# Altium footprint library TC264.PcbLib: 47 footprints (part 1 of 3)
Each footprint in its own frame and in the unit in brackets; x right, y up, seen from the top. Pads: shape width x height; smd on the part's side, far side on the other; paste and mask are expansions set on the pad; w line width, h text height; cw(c..) or ccw(c..) is an arc to the next point about the centre after c.
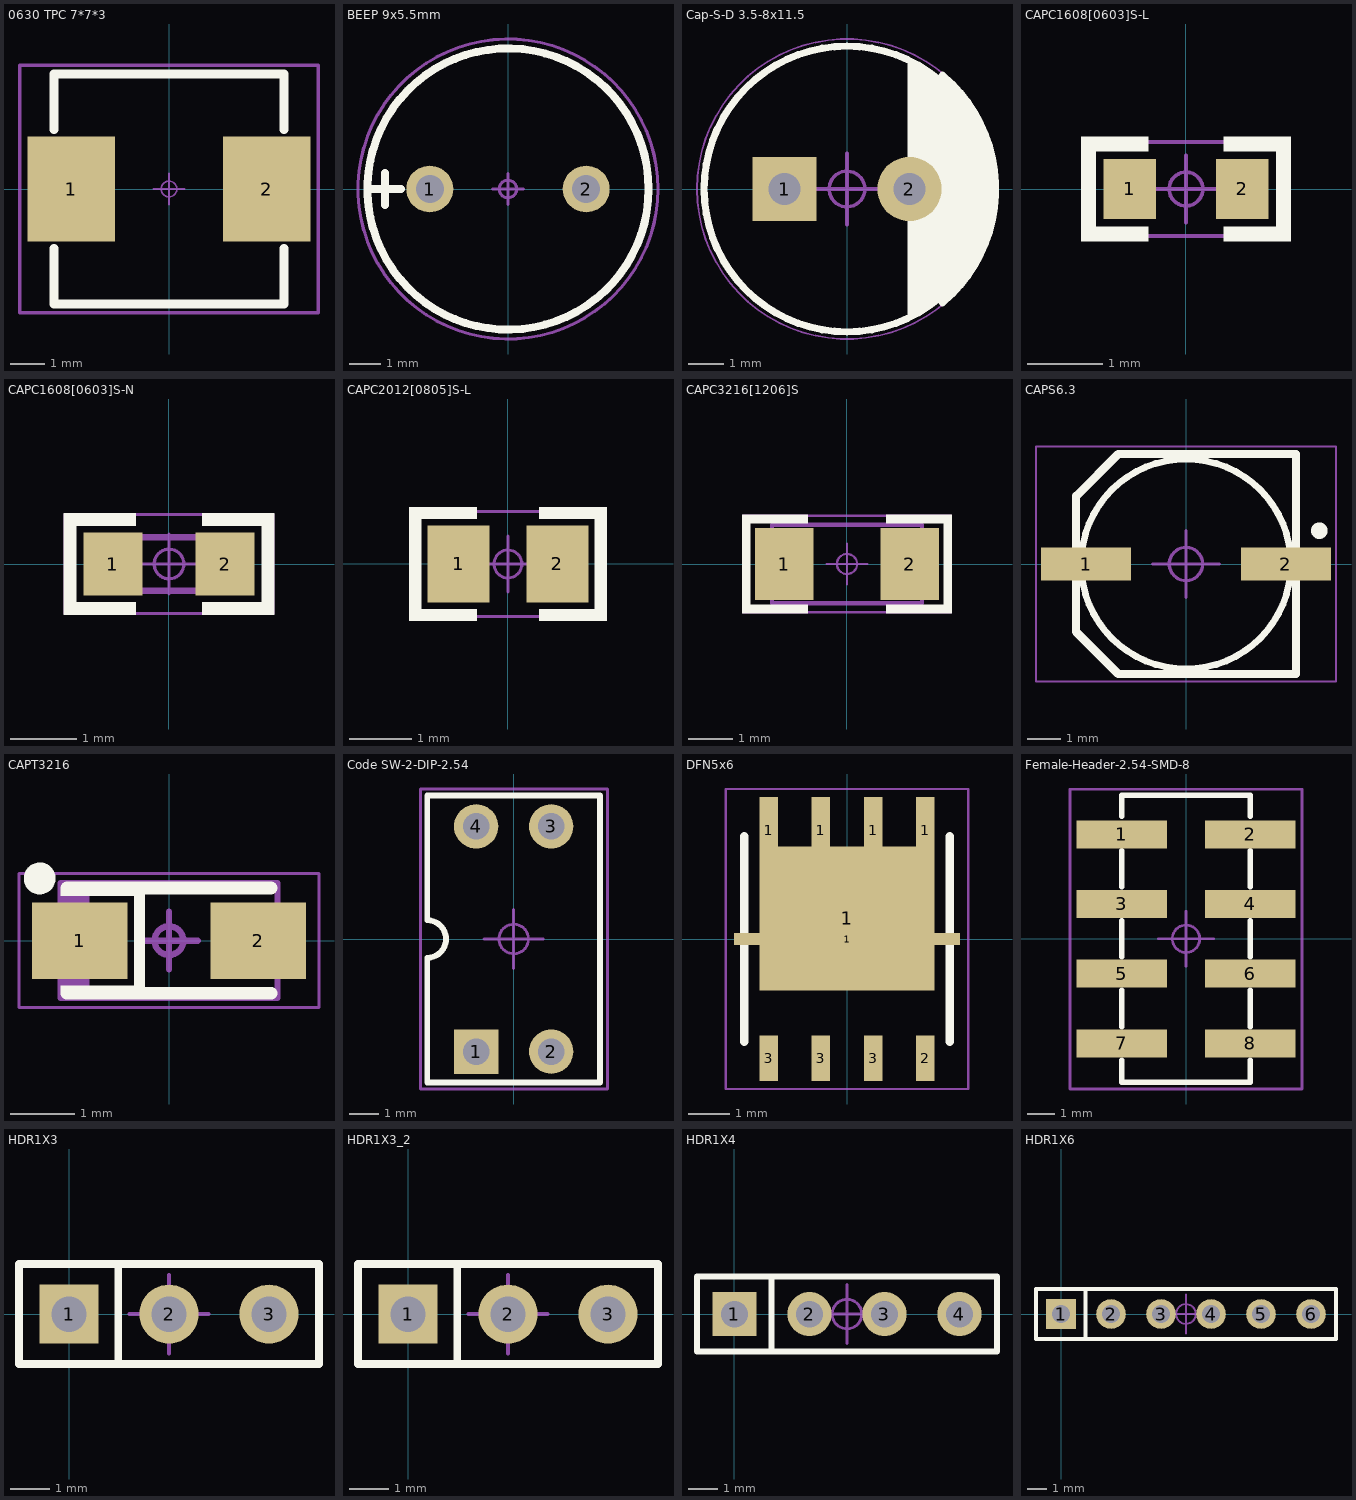
[diagram p0: the footprints below, top view; thin cyan lines are the x and y axes]

## 0630 TPC 7*7*3 [mm] "12mmx12mmx6.5mm 一体成型功率电感"
height 6.5
pads (2):
  rect 2.5x3 smd: 1(-2.8,0) 2(2.8,0)
Top Overlay:
  lines w0.254: -3.3,-1.7 -3.3,-3.3 3.3,-3.3 3.3,-1.7 ; -3.3,1.7 -3.3,3.3 3.3,3.3 3.3,1.7
Top Component Outline:
  lines w0.1: -4.275,-3.55 4.275,-3.55 4.275,3.55 -4.275,3.55 -4.275,-3.55
Top Designator:
  text ".Designator" at -2.253,-0.226 h1
Top Component Center:
  circle w0.05: c0,0 r0.225
  lines w0.05: -0.45,0 0.45,0 ; 0,-0.45 0,0.45
3D body: height 3, standoff 0, extent -3.3,-3.3 3.3,3.3

## BEEP 9x5.5mm [mm] "蜂鸣器 9x5.5mm"
pads (2):
  round 1.5 hole 0.9: 1(-2.5,0) 2(2.5,0)
Top Overlay:
  circle w0.254: c0,0 r4.5
  lines w0.254: -4.496,0 -3.429,0 ; -3.937,-0.508 -3.937,0.508
Top Component Outline:
  circle w0.1: c0,0 r4.8
Top Designator:
  text ".Designator" at 2.253,0.226 h1
Top Component Center:
  circle w0.1: c0,0 r0.28
  lines w0.1: -0.5,0 0.5,0 ; 0,-0.5 0,0.5
3D body "cx-0905c.stp": height 5.05, standoff -5.45, extent -4.8,-4.8 4.8,4.8

## Cap-S-D 3.5-8x11.5 [mm] "固态直插 3.5mm间距 8x11.5mm"
height 0.6
pads (2):
  rect 1.8x1.8 hole 0.9: 1(-1.75,0)
  round 1.8 hole 0.9: 2(1.75,0)
Top Overlay:
  circle w0.2: c0,0 r4
  region: 1.7,3.6 1.7,-3.6 2.6,-3 3.4,-2.1 3.9,-1 4,0 3.9,1 3.4,2.1 2.6,3
  lines w0.2: 2.675,-3.188 ccw(c0,0) 2.675,3.188
Top Component Outline:
  circle w0.05: c0,0 r4.2
Top Designator:
  text ".Designator" at -2.253,-0.226 h1
Top Component Center:
  circle w0.1: c0,0 r0.5
  lines w0.1: -1,0 1,0 ; 0,-1 0,1
3D body "CAP-S-D 3.5 8x11.5 Red.STEP": height 11.5, standoff -3.5, extent -4,-4 4,4

## CAPC1608[0603]S-L [mm] "0603贴片电容 有丝印 2脚 1.60x0.80mm IPC高密度"
height 0.85
pads (2):
  rect 0.7x0.8 smd: 1(-0.75,0) 2(0.75,0)
Top Overlay:
  rectangle: -1.4,0.5 -0.5,0.7
  region: -1.4,0.7 -1.4,-0.7 -1.2,-0.7 -1.2,0.7
  rectangle: -1.4,-0.7 -0.5,-0.5
  region: 1.4,-0.5 0.5,-0.5 0.5,-0.7 1.4,-0.7
  region: 1.4,-0.7 1.4,0.7 1.2,0.7 1.2,-0.7
  region: 1.4,0.7 0.5,0.7 0.5,0.5 1.4,0.5
Top Component Outline:
  rectangle: -1.35,-0.65 -1.3,0.65
  region: 1.35,0.6 1.35,0.65 -1.35,0.65 -1.35,0.6
  region: 1.35,0.65 1.3,0.65 1.3,-0.65 1.35,-0.65
  region: -1.35,-0.6 -1.35,-0.65 1.35,-0.65 1.35,-0.6
Top Designator:
  text ".Designator" at -2.253,-0.226 h1
Top Component Center:
  circle w0.05: c0,0 r0.225
  lines w0.05: -0.45,0 0.45,0 ; 0,-0.45 0,0.45
3D body: height 0.79, standoff 0, extent -0.8,-0.406 -0.45,0.406
3D body: height 0.79, standoff 0, extent 0.45,-0.406 0.8,0.407
3D body: height 0.79, standoff 0, extent -0.45,-0.406 0.45,0.406

## CAPC1608[0603]S-N [mm] "0603贴片电容 有丝印 2脚 1.60x0.80mm IPC中密度"
height 0.85
pads (2):
  rect 0.9x0.95 smd: 1(-0.85,0) 2(0.85,0)
Top Overlay:
  rectangle: -1.6,0.575 -0.5,0.775
  region: -1.6,0.775 -1.6,-0.775 -1.4,-0.775 -1.4,0.775
  rectangle: -1.6,-0.775 -0.5,-0.575
  region: 1.6,-0.575 0.5,-0.575 0.5,-0.775 1.6,-0.775
  region: 1.6,-0.775 1.6,0.775 1.4,0.775 1.4,-0.775
  region: 1.6,0.775 0.5,0.775 0.5,0.575 1.6,0.575
Top Component Outline:
  lines w0.05: -1.575,-0.75 1.575,-0.75 1.575,0.75 -1.575,0.75 -1.575,-0.75
Top Designator:
  text ".Designator" at 2.253,0.226 h1
Mechanical 13:
  lines w0.1: -0.8,-0.406 -0.8,0.406 0.825,0.406 0.825,-0.406 -0.8,-0.406
Top Component Center:
  circle w0.05: c0,0 r0.225
  lines w0.05: -0.45,0 0.45,0 ; 0,-0.45 0,0.45
3D body: height 0.79, standoff 0, extent -0.45,-0.406 0.45,0.406
3D body: height 0.79, standoff 0, extent 0.45,-0.406 0.8,0.407
3D body: height 0.79, standoff 0, extent -0.8,-0.406 -0.45,0.406

## CAPC2012[0805]S-L [mm] "0805贴片电容 有丝印 2脚 2.00x1.20mm IPC高密度"
height 1.1
pads (2):
  rect 1x1.25 smd: 1(-0.8,0) 2(0.8,0)
Top Overlay:
  region: 1.6,-0.725 0.5,-0.725 0.5,-0.925 1.6,-0.925
  region: 1.6,-0.925 1.6,0.925 1.4,0.925 1.4,-0.925
  region: 1.6,0.925 0.5,0.925 0.5,0.725 1.6,0.725
  rectangle: -1.6,0.725 -0.5,0.925
  region: -1.6,0.925 -1.6,-0.925 -1.4,-0.925 -1.4,0.925
  rectangle: -1.6,-0.925 -0.5,-0.725
Top Component Outline:
  rectangle: -1.55,-0.875 -1.5,0.875
  region: 1.55,0.825 1.55,0.875 -1.55,0.875 -1.55,0.825
  region: 1.55,0.875 1.5,0.875 1.5,-0.875 1.55,-0.875
  region: -1.55,-0.825 -1.55,-0.875 1.55,-0.875 1.55,-0.825
Top Designator:
  text ".Designator" at -2.253,-0.226 h1
Top Component Center:
  circle w0.05: c0,0 r0.225
  lines w0.05: -0.45,0 0.45,0 ; 0,-0.45 0,0.45
3D body "capacitor_rnd1500805b106k6r3.stp": height 1.25, standoff 0, extent -1,-0.627 1,0.623

## CAPC3216[1206]S [mm] "1206贴片电容 有丝印 2脚 3.20x1.60mm IPC中密度"
height 1.35
pads (2):
  rect 1.3x1.6 smd: 1(-1.4,0) 2(1.4,0)
Top Overlay:
  region: 2.346,-0.906 0.871,-0.906 0.871,-1.106 2.346,-1.106
  rectangle: -2.35,-1.1 -0.875,-0.9
  region: 2.346,1.106 0.871,1.106 0.871,0.906 2.346,0.906
  rectangle: -2.35,0.9 -0.875,1.1
  region: 2.35,-1.1 2.35,1.1 2.15,1.1 2.15,-1.1
  region: -2.35,1.1 -2.35,-1.1 -2.15,-1.1 -2.15,1.1
Top Component Outline:
  lines w0.05: -2.325,-1.075 -2.325,1.075 2.325,1.075 2.325,-1.075 -2.325,-1.075
Top Designator:
  text ".Designator" at -2.253,-0.226 h1
Mechanical 13:
  lines w0.1: -1.675,-0.875 1.675,-0.875 1.675,0.875 -1.675,0.875 -1.675,-0.875
Top Component Center:
  circle w0.05: c0,0 r0.225
  lines w0.05: -0.45,0 0.45,0 ; 0,-0.45 0,0.45
3D body "C 1206.STEP": height 1.21, standoff -0.01, extent -1.6,-0.81 1.6,0.81

## CAPS6.3 [mm] "Solid Electorlytic Capacitor, E-type Footprint, 6.3mm Diameter, 5.5mm Height"
height 5.5
pads (2):
  rect 2.7x1 smd: 1(-3,0) 2(3,0)
Top Overlay:
  circle w0.2: c0,0 r3.15
  circle w0.25: c4,1 r0.125
  lines w0.254: -3.3,2.032 -3.3,-2.032 -2.032,-3.3 3.3,-3.3 3.3,3.3 -2.032,3.3 -3.287,2.045
Top Component Outline:
  lines w0.05: -4.5,-3.525 -4.5,3.525 4.5,3.525 4.5,-3.525 -4.5,-3.525
Top Designator:
  text ".Designator" at -2.253,-0.226 h1
Top Component Center:
  circle w0.1: c0,0 r0.5
  lines w0.1: -1,0 1,0 ; 0,-1 0,1
3D body "SL-E.step": height 5.2, standoff 0, extent -3.5,-3.302 3.5,3.298

## CAPT3216 [mm] "Molded (Tantalum) Capacitor, 2-Leads, Body 3.20x1.60mm, IPC Medium Density"
height 1.8
pads (2):
  rect 1.5x1.2 smd: 1(-1.4,0) 2(1.4,0)
Top Overlay:
  circle w0.25: c-2.025,0.975 r0.125
  rectangle: -0.549,-0.9 -0.374,0.85
  region: -0.375,-0.7 -1.7,-0.7 -1.7,-0.825 -0.375,-0.825
  rectangle: -1.7,0.7 -0.375,0.85
  lines w0.2: -1.6,-0.825 1.6,-0.825 ; -1.6,0.825 1.6,0.825
Top Component Outline:
  lines w0.05: -2.35,-1.05 2.35,-1.05 2.35,1.05 -2.35,1.05 -2.35,-1.05
Top Designator:
  text ".Designator" at 2.253,0.301 h1
Mechanical 13:
  rectangle: -1.7,-0.9 -1.243,0.9
  lines w0.1: -1.7,-0.9 1.7,-0.9 1.7,0.9 -1.7,0.9 -1.7,-0.9
Top Component Center:
  circle w0.1: c0,0 r0.225
  lines w0.1: -0.45,0 0.45,0 ; 0,-0.45 0,0.45
3D body "TAJ-A.STEP": height 1.6, standoff 0, extent -1.6,-0.8 1.6,0.8

## Code SW-2-DIP-2.54 [mm] "2位直插拨码开关 间距2.54"
height 1.2
pads (4):
  rect 1.5x1.5 hole 0.9: 1(-1.27,-3.81)
  round 1.5 hole 0.9: 2(1.27,-3.81) 3(1.27,3.81) 4(-1.27,3.81)
Top Overlay:
  lines w0.2: -2.925,-4.85 -2.925,-0.635 ccw(c-2.925,0) -2.925,0.635 -2.925,4.85 2.925,4.85 2.925,-4.85 -2.925,-4.85
Top Component Outline:
  lines w0.1: -3.15,-5.075 3.175,-5.075 3.175,5.075 -3.15,5.075 -3.15,-5.075
Top Designator:
  text ".Designator" at -2.253,-0.226 h1
Top Component Center:
  circle w0.1: c0,0 r0.5
  lines w0.1: -1,0 1,0 ; 0,-1 0,1
3D body "Switch-DIP-2.STEP": height 7.03, standoff -3.67, extent -3.04,-4.95 3.04,4.95

## DFN5x6 [mm]
height 0.6
pads (10):
  rect 0.45x1.6 smd: 1(-1.905,2.65) 1(-0.635,2.65) 1(0.635,2.65) 1(1.905,2.65)
  rect 5.5x0.3 smd: 1(0,0)
  rect 4.25x3.5 smd: 1(0,0.5)
  rect 0.45x1.1 smd: 2(1.905,-2.9) 3(-1.905,-2.9) 3(-0.635,-2.9) 3(0.635,-2.9)
Top Overlay:
  lines w0.2: -2.5,-2.5 -2.5,2.5 ; 2.5,-2.5 2.5,2.5
Top Component Outline:
  lines w0.05: -2.95,-3.65 2.95,-3.65 2.95,3.65 -2.95,3.65 -2.95,-3.65
Top Designator:
  text ".Designator" at -2.253,-0.226 h1
Top Component Center:
  circle w0.05: c0,0 r0.35
  lines w0.05: -0.5,0 0.5,0 ; 0,-0.5 0,0.5
3D body "User Library-SON5x6.STEP": height 1, standoff 0, extent -2.45,-3 2.45,3

## Female-Header-2.54-SMD-8 [mm]
pads (8):
  rect 3.3x1.02 smd: 1(-2.35,3.81) 2(2.35,3.81) 3(-2.35,1.27) 4(2.35,1.27) 5(-2.35,-1.27) 6(2.35,-1.27) 7(-2.35,-3.81) 8(2.35,-3.81)
Top Overlay:
  lines w0.2: -2.35,-4.42 -2.35,-5.225 2.35,-5.225 2.35,-4.42 ; -2.35,-3.2 -2.35,-1.88 ; -2.35,-0.66 -2.35,0.66 ; -2.35,1.905 -2.35,3.2 ; -2.35,4.47 -2.35,5.225 2.35,5.225 2.35,4.47 ; 2.35,-3.2 2.35,-1.88 ; 2.35,-0.66 2.35,0.66 ; 2.35,1.905 2.35,3.2
Top Component Outline:
  lines w0.1: -4.225,-5.475 4.225,-5.475 4.225,5.45 -4.225,5.45 -4.225,-5.475
Top Designator:
  text ".Designator" at -2.253,-0.238 h1
Top Component Center:
  circle w0.1: c0,0 r0.5
  lines w0.1: -1,0 1,0 ; 0,-1 0,1
3D body "Female-Header-2.54-SMD-8.stp": height 5, standoff -0.1, extent -3.3,-5.33 3.3,5.33

## HDR1X3 [mm] "Connector; Header; 3 Position"
pads (3):
  rect 1.5x1.5 hole 0.9: 1(0,0)
  round 1.5 hole 0.9: 2(2.54,0) 3(5.08,0)
Top Overlay:
  lines w0.2: 1.25,-1.25 1.25,1.25 ; -1.27,-1.27 6.35,-1.27 6.35,1.27 -1.27,1.27 -1.27,-1.27
Top Component Outline:
  lines w0.1: -1.27,-1.27 6.35,-1.27 6.35,1.275 -1.27,1.275 -1.27,-1.27
Top Designator:
  text ".Designator" at 0.287,-0.226 h1
Top Component Center:
  circle w0.1: c2.54,0 r0.5
  lines w0.1: 1.54,0 3.54,0 ; 2.54,-1 2.54,1
3D body "1001-3.STEP": height 8.54, standoff -3, extent -1.27,-1.27 6.35,1.27

## HDR1X3_2 [mm]
pads (3):
  rect 1.5x1.5 hole 0.9: 1(0,0)
  round 1.5 hole 0.9: 2(2.54,0) 3(5.08,0)
Top Overlay:
  lines w0.2: 1.25,-1.25 1.25,1.25 ; -1.27,-1.27 -1.27,1.27 6.35,1.27 6.35,-1.27 -1.27,-1.27
Top Component Outline:
  lines w0.1: -1.27,-1.27 -1.27,1.275 6.35,1.275 6.35,-1.27 -1.27,-1.27
Top Designator:
  text ".Designator" at 4.793,0.226 h1
Top Component Center:
  circle w0.1: c2.54,0 r0.5
  lines w0.1: 1.54,0 3.54,0 ; 2.54,-1 2.54,1
3D body "1001-3.STEP": height 8.54, standoff -3, extent -1.27,-1.27 6.35,1.27

## HDR1X4 [mm] "Connector; Header; 4 Position"
pads (4):
  rect 1.5x1.5 hole 0.9: 1(0,0)
  round 1.5 hole 0.9: 2(2.54,0) 3(5.08,0) 4(7.62,0)
Top Overlay:
  lines w0.2: 1.25,-1.25 1.25,1.25 ; -1.27,-1.27 -1.27,1.27 8.89,1.27 8.89,-1.27 -1.27,-1.27
Top Component Outline:
  lines w0.1: -1.27,-1.27 8.89,-1.27 8.89,1.275 -1.27,1.275 -1.27,-1.27
Top Designator:
  text ".Designator" at 1.557,-0.226 h1
Top Component Center:
  circle w0.1: c3.81,0 r0.5
  lines w0.1: 2.81,0 4.81,0 ; 3.81,-1 3.81,1
3D body "1001-4.STEP": height 8.54, standoff -3, extent -1.27,-1.27 8.89,1.27

## HDR1X6 [mm] "Connector; Header; 6 Position"
pads (6):
  rect 1.5x1.5 hole 0.9: 1(0,0)
  round 1.5 hole 0.9: 2(2.54,0) 3(5.08,0) 4(7.62,0) 5(10.16,0) 6(12.7,0)
Top Overlay:
  lines w0.2: 1.25,-1.25 1.25,1.25 ; -1.27,-1.27 13.97,-1.27 13.97,1.27 -1.27,1.27 -1.27,-1.27
Top Component Outline:
  lines w0.1: -1.27,-1.27 13.97,-1.27 13.97,1.27 -1.27,1.27 -1.27,-1.27
Top Designator:
  text ".Designator" at 4.097,-0.226 h1
Top Component Center:
  circle w0.1: c6.35,0 r0.5
  lines w0.1: 5.35,0 7.35,0 ; 6.35,-1 6.35,1
3D body "1001-6.STEP": height 8.54, standoff -3, extent -1.27,-1.27 13.97,1.27